# EAGLE library part MRD532AQFN (library DISEÑOS)
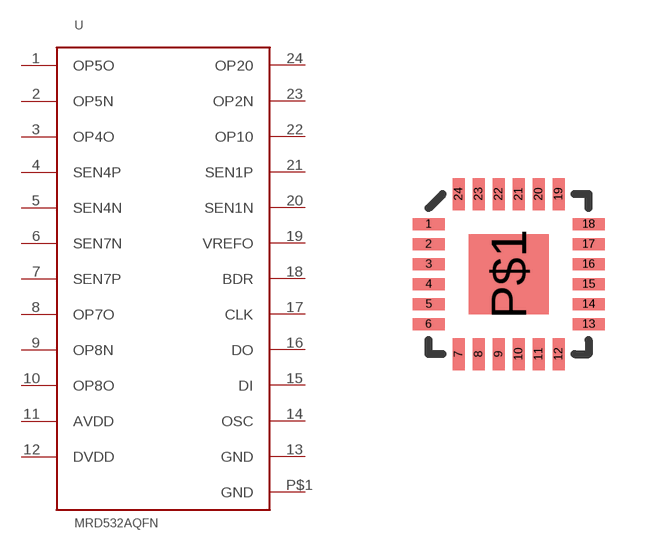
[diagram p2: symbol with the pads of QFN_24; footprint QFN_24]

Designator prefix -

## MRD532AQFN_SMD  [QFN_24]
1  OP5O
2  OP5N
3  OP4O
4  SEN4P
5  SEN4N
6  SEN7N
7  SEN7P
8  OP7O
9  OP8N
10  OP8O
11  AVDD
12  DVDD
13  GND
14  OSC
15  DI
16  DO
17  CLK
18  BDR
19  VREFO
20  SEN1N
21  SEN1P
22  OP10
23  OP2N
24  OP20
P$1  GND

## Footprint QFN_24 (pad centres in mm)
smd 0.8 x 0.3: 1 -2,1.25; 2 -2,0.75; 3 -2,0.25; 4 -2,-0.25; 5 -2,-0.75; 6 -2,-1.25; 13 2,-1.25; 14 2,-0.75; 15 2,-0.25; 16 2,0.25; 17 2,0.75; 18 2,1.25
smd 0.3 x 0.8: 7 -1.25,-2; 8 -0.75,-2; 9 -0.25,-2; 10 0.25,-2; 11 0.75,-2; 12 1.25,-2; 19 1.25,2; 20 0.75,2; 21 0.25,2; 22 -0.25,2; 23 -0.75,2; 24 -1.25,2
smd 2 x 2: P$1 0,0